# Altium footprint library PCB1.PcbLib: 6 footprints
Each footprint in its own frame and in the unit in brackets; x right, y up, seen from the top. Pads: shape width x height; smd on the part's side, far side on the other; paste and mask are expansions set on the pad; w line width, h text height; cw(c..) or ccw(c..) is an arc to the next point about the centre after c.
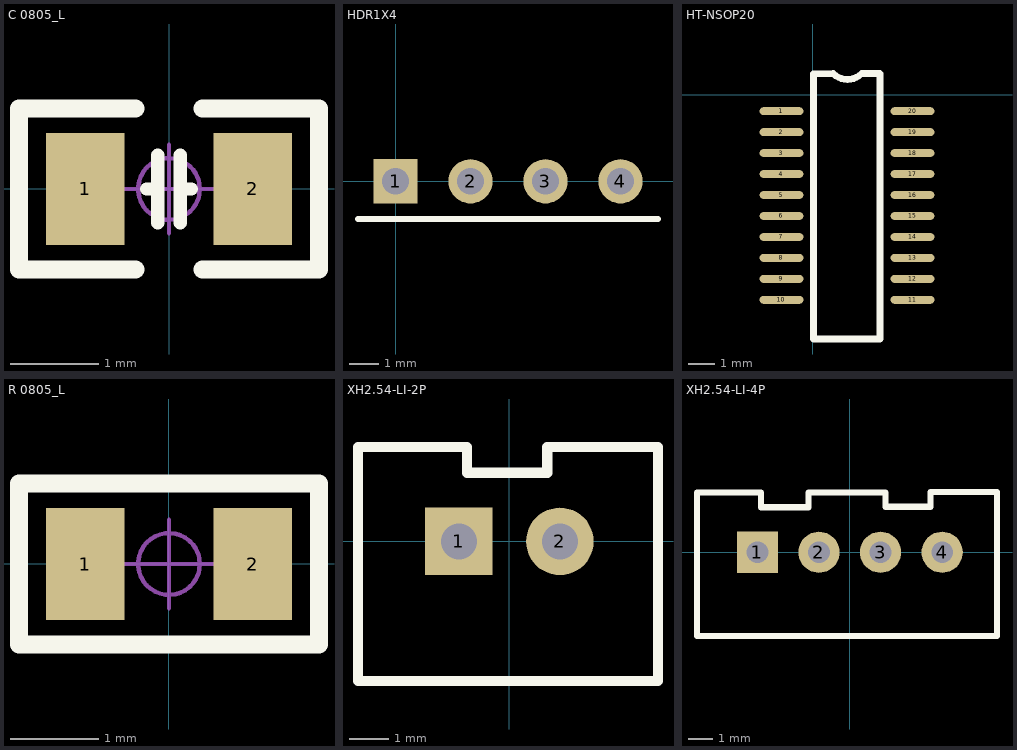
[diagram p0: the footprints below, top view; thin cyan lines are the x and y axes]

## C 0805_L [mil] "无极性贴片电容"
height 19.68
pads (2):
  rect 35x50 smd: 1(-37.4,0) 2(37.4,0)
Top Overlay:
  lines w6: -10,0 -5,0 ; -5,-15 -5,15 ; 5,-15 5,15 ; 5,0 10,0
  lines w8: -15,-36 -66.93,-36 -66.93,36 -15,36 ; 15,-36 66.93,-36 66.93,36 15,36
Mechanical 15:
  circle w1.97: c0,0 r13.78
  circle w1.97: c0,0 r13.78
  lines w1.97: -19.69,0 19.68,0 -19.69,0 ; 0,-19.69 0,19.68 0,-19.69
3D body: height 20.08, standoff -0.39, extent -39.37,-24.02 39.37,24.02

## HDR1X4 [mm] "Connector; Header; 4 Position"
pads (4):
  rect 1.5x1.5 hole 0.9: 1(0,0)
  round 1.5 hole 0.9: 2(2.54,0) 3(5.08,0) 4(7.62,0)
Top Overlay:
  lines w0.2: -1.27,-1.27 8.89,-1.27

## HT-NSOP20 [mm]
pads (20):
  oval 1.676x0.3 smd: 1(-1.194,-0.635) 2(-1.194,-1.435) 3(-1.194,-2.235) 4(-1.194,-3.035) 5(-1.194,-3.835) 6(-1.194,-4.635) 7(-1.194,-5.435) 8(-1.194,-6.235) 9(-1.194,-7.035) 10(-1.194,-7.835) 11(3.806,-7.835) 12(3.806,-7.035) 13(3.806,-6.235) 14(3.806,-5.435) 15(3.806,-4.635) 16(3.806,-3.835) 17(3.806,-3.035) 18(3.806,-2.235) 19(3.806,-1.435) 20(3.806,-0.635)
Top Overlay:
  lines w0.254: 0.768,0.79 0.025,0.79 0.025,-9.33 2.565,-9.33 2.565,0.79 ; 0.778,0.8 ccw(c1.324,1.346) 1.87,0.8 2.555,0.8

## R 0805_L [mil] "1/8W贴片电阻"
pads (2):
  rect 35x50 smd: 1(-37.4,0) 2(37.4,0)
Top Overlay:
  lines w8: -66.93,-36 66.93,-36 66.93,36 -66.93,36 -66.93,-36
Mechanical 15:
  circle w1.97: c0,0 r13.78
  lines w1.97: -19.68,0 19.69,0 ; 0,-19.69 0,19.68
3D body: height 19.72, standoff -0.24, extent -39.37,-24.61 39.37,24.61

## XH2.54-LI-2P [mm] "接插件，2P"
pads (2):
  rect 1.7x1.7 hole 0.9: 1(-1.27,0)
  round 1.7 hole 0.9: 2(1.27,0)
Top Overlay:
  lines w0.254: -3.807,-3.505 3.736,-3.505 3.736,2.37 2.954,2.37 0.953,2.37 0.953,1.727 -1.067,1.727 -1.067,2.37 -3.807,2.37 -3.807,-3.505
3D body: height 7.05, standoff -2.45, extent -3.77,-3.3 3.77,2.4

## XH2.54-LI-4P [mm] "接插件，4P"
pads (4):
  rect 1.7x1.7 hole 0.9: 1(-3.81,0)
  round 1.7 hole 0.9: 2(-1.27,0) 3(1.27,0) 4(3.81,0)
Top Overlay:
  lines w0.254: -6.299,-3.454 6.071,-3.454 6.071,2.489 3.327,2.489 3.327,1.88 1.473,1.88 1.473,2.464 -1.702,2.464 -1.702,1.854 -3.658,1.854 -3.658,2.464 -6.299,2.464 -6.299,-3.454
3D body: height 7.03, standoff -2.47, extent -6.31,-3.3 6.31,2.4